# Altium footprint library PBTC-1GW+.PcbLib: 1 footprints
Each footprint in its own frame and in the unit in brackets; x right, y up, seen from the top. Pads: shape width x height; smd on the part's side, far side on the other; paste and mask are expansions set on the pad; w line width, h text height; cw(c..) or ccw(c..) is an arc to the next point about the centre after c.
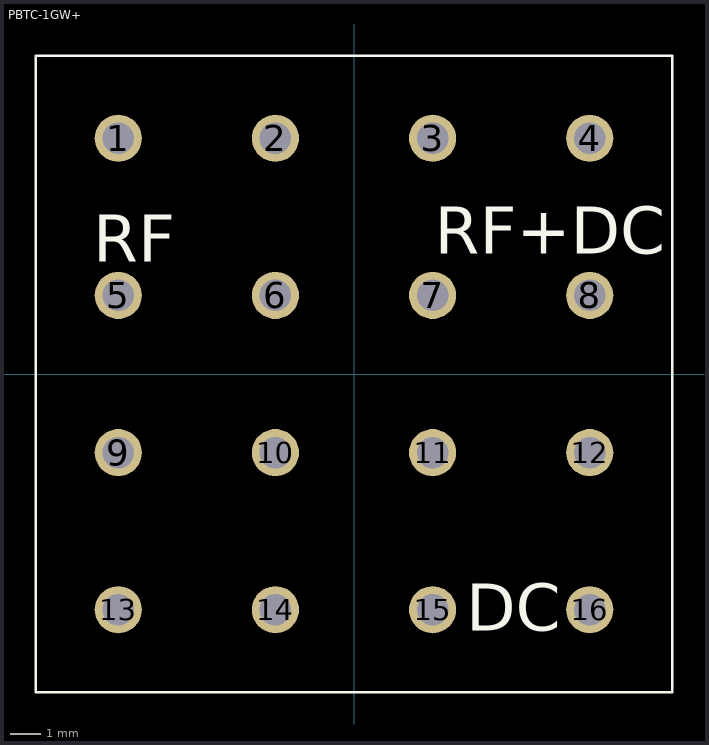
[diagram p0: the footprint, top view; thin cyan lines are the x and y axes]

## PBTC-1GW+ [mil] "Mini-Circuits Bias-Tee"
height 410
pads (16):
  round 60 hole 40: 1(-300,300) 2(-100,300) 3(100,300) 4(300,300) 5(-300,100) 6(-100,100) 7(100,100) 8(300,100) 9(-300,-100) 10(-100,-100) 11(100,-100) 12(300,-100) 13(-300,-300) 14(-100,-300) 15(100,-300) 16(300,-300)
Top Overlay:
  lines w3.15: -405,-405 -405,405 405,405 405,-405 -405,-405
  text "RF+DC" at 103,153 h60
  text "DC" at 143,-327 h60
  text "RF" at -332,143 h60